# Altium schematic symbol library BTS50015.SchLib: 1 symbol
Pins are listed as number, name and electrical type; pins without a type are passive.

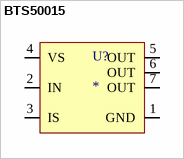
[diagram p0: symbol BTS50015]

## BTS50015
designator U?
pins: 1 GND, 2 IN, 3 IS, 4 VS, 5 OUT, 6 OUT, 7 OUT